# Altium footprint library Analog Devices Footprints.PcbLib: 248 footprints (part 6 of 16)
Each footprint in its own frame and in the unit in brackets; x right, y up, seen from the top. Pads: shape width x height; smd on the part's side, far side on the other; paste and mask are expansions set on the pad; w line width, h text height; cw(c..) or ccw(c..) is an arc to the next point about the centre after c.
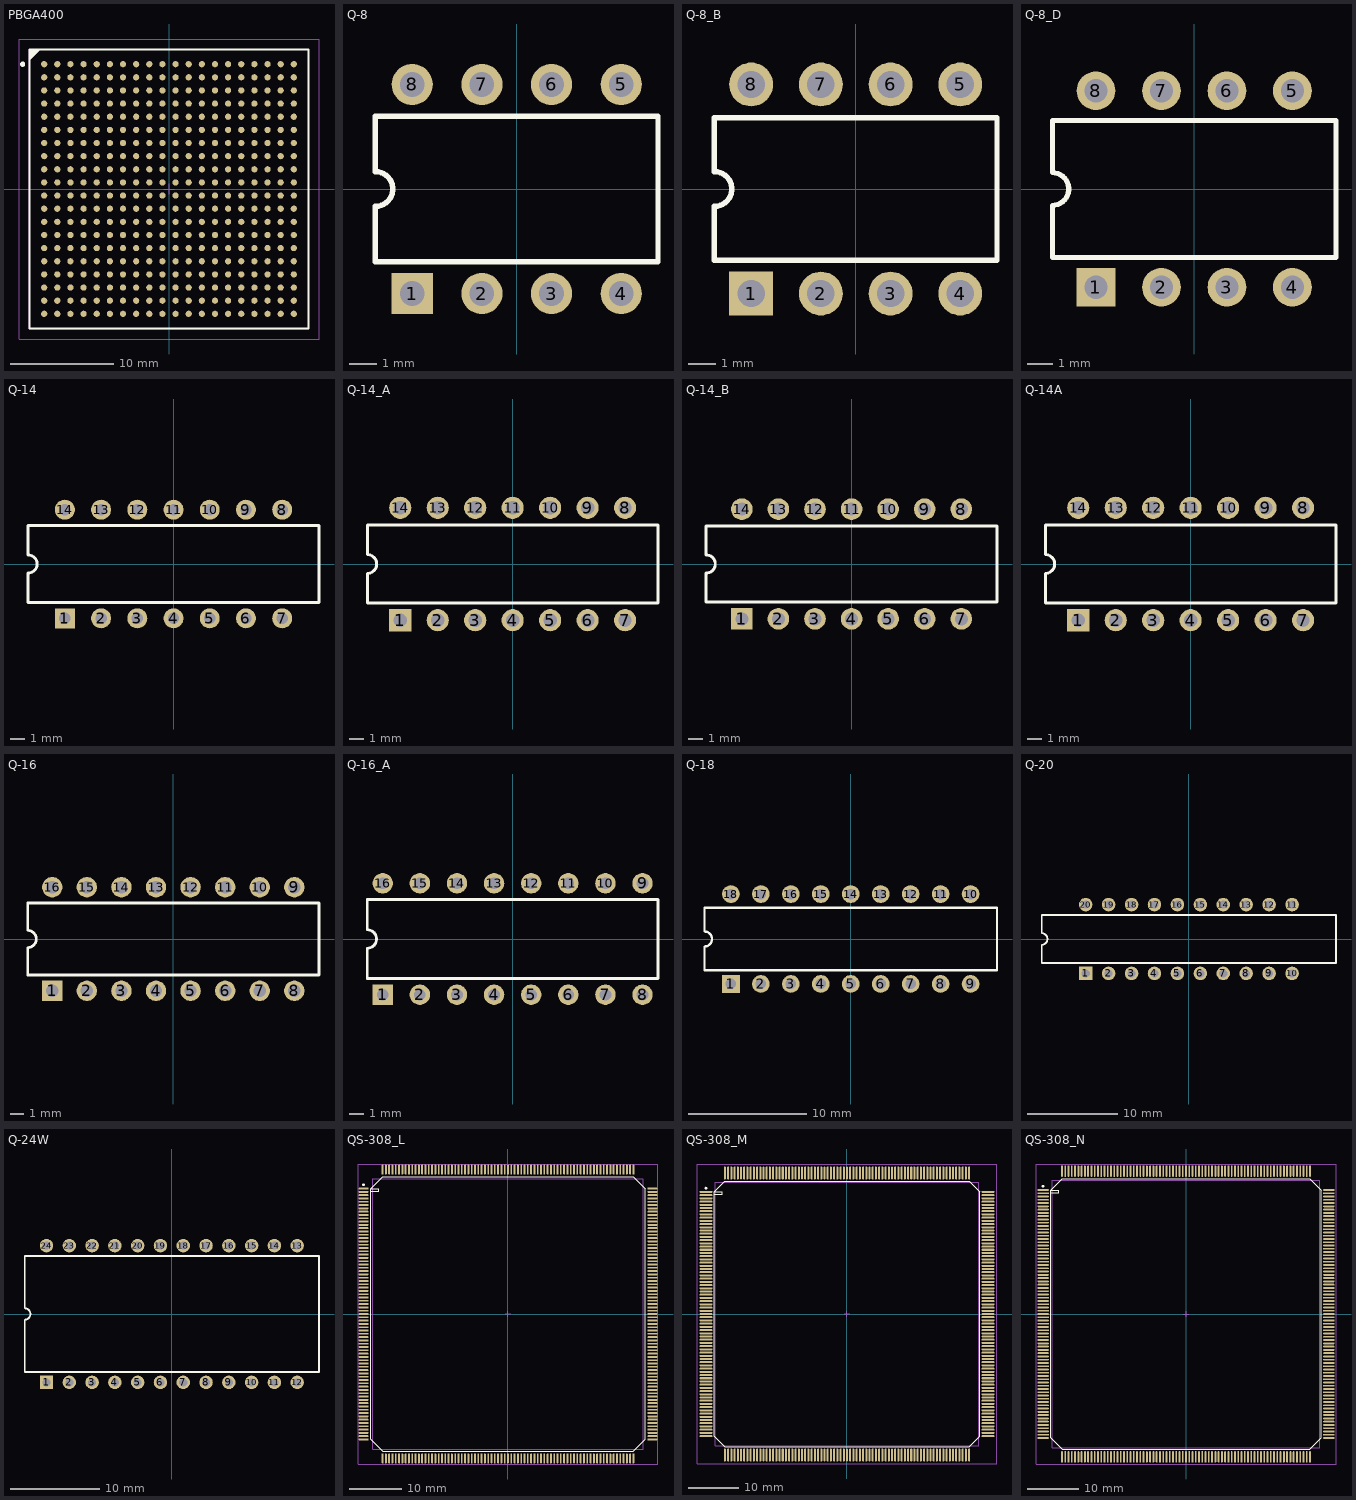
[diagram p5: the footprints below, top view; thin cyan lines are the x and y axes]

## PBGA400 [mm] "400-Ball Ball Grid Array 1.27 mm Pitch"
height 2.3
pads (400):
  round 0.6 smd: A1(-12.065,12.065) A2(-10.795,12.065) A3(-9.525,12.065) A4(-8.255,12.065) A5(-6.985,12.065) A6(-5.715,12.065) A7(-4.445,12.065) A8(-3.175,12.065) A9(-1.905,12.065) A10(-0.635,12.065) A11(0.635,12.065) A12(1.905,12.065) A13(3.175,12.065) A14(4.445,12.065) A15(5.715,12.065) A16(6.985,12.065) A17(8.255,12.065) A18(9.525,12.065) A19(10.795,12.065) A20(12.065,12.065) B1(-12.065,10.795) B2(-10.795,10.795) B3(-9.525,10.795) B4(-8.255,10.795) B5(-6.985,10.795) B6(-5.715,10.795) B7(-4.445,10.795) B8(-3.175,10.795) B9(-1.905,10.795) B10(-0.635,10.795) B11(0.635,10.795) B12(1.905,10.795) B13(3.175,10.795) B14(4.445,10.795) B15(5.715,10.795) B16(6.985,10.795) B17(8.255,10.795) B18(9.525,10.795) B19(10.795,10.795) B20(12.065,10.795) C1(-12.065,9.525) C2(-10.795,9.525) C3(-9.525,9.525) C4(-8.255,9.525) C5(-6.985,9.525) C6(-5.715,9.525) C7(-4.445,9.525) C8(-3.175,9.525) C9(-1.905,9.525) C10(-0.635,9.525) C11(0.635,9.525) C12(1.905,9.525) C13(3.175,9.525) C14(4.445,9.525) C15(5.715,9.525) C16(6.985,9.525) C17(8.255,9.525) C18(9.525,9.525) C19(10.795,9.525) C20(12.065,9.525) D1(-12.065,8.255) D2(-10.795,8.255) D3(-9.525,8.255) D4(-8.255,8.255) D5(-6.985,8.255) D6(-5.715,8.255) D7(-4.445,8.255) D8(-3.175,8.255) D9(-1.905,8.255) D10(-0.635,8.255) D11(0.635,8.255) D12(1.905,8.255) D13(3.175,8.255) D14(4.445,8.255) D15(5.715,8.255) D16(6.985,8.255) D17(8.255,8.255) D18(9.525,8.255) D19(10.795,8.255) D20(12.065,8.255) E1(-12.065,6.985) E2(-10.795,6.985) E3(-9.525,6.985) E4(-8.255,6.985) E5(-6.985,6.985) E6(-5.715,6.985) E7(-4.445,6.985) E8(-3.175,6.985) E9(-1.905,6.985) E10(-0.635,6.985) E11(0.635,6.985) E12(1.905,6.985) E13(3.175,6.985) E14(4.445,6.985) E15(5.715,6.985) E16(6.985,6.985) E17(8.255,6.985) E18(9.525,6.985) E19(10.795,6.985) E20(12.065,6.985) F1(-12.065,5.715) F2(-10.795,5.715) F3(-9.525,5.715) F4(-8.255,5.715) F5(-6.985,5.715) F6(-5.715,5.715) F7(-4.445,5.715) F8(-3.175,5.715) F9(-1.905,5.715) F10(-0.635,5.715) F11(0.635,5.715) F12(1.905,5.715) F13(3.175,5.715) F14(4.445,5.715) F15(5.715,5.715) F16(6.985,5.715) F17(8.255,5.715) F18(9.525,5.715) F19(10.795,5.715) F20(12.065,5.715) G1(-12.065,4.445) G2(-10.795,4.445) G3(-9.525,4.445) G4(-8.255,4.445) G5(-6.985,4.445) G6(-5.715,4.445) G7(-4.445,4.445) G8(-3.175,4.445) G9(-1.905,4.445) G10(-0.635,4.445) G11(0.635,4.445) G12(1.905,4.445) G13(3.175,4.445) G14(4.445,4.445) G15(5.715,4.445) G16(6.985,4.445) G17(8.255,4.445) G18(9.525,4.445) G19(10.795,4.445) G20(12.065,4.445) H1(-12.065,3.175) H2(-10.795,3.175) H3(-9.525,3.175) H4(-8.255,3.175) H5(-6.985,3.175) H6(-5.715,3.175) H7(-4.445,3.175) H8(-3.175,3.175) H9(-1.905,3.175) H10(-0.635,3.175) H11(0.635,3.175) H12(1.905,3.175) H13(3.175,3.175) H14(4.445,3.175) H15(5.715,3.175) H16(6.985,3.175) H17(8.255,3.175) H18(9.525,3.175) H19(10.795,3.175) H20(12.065,3.175) J1(-12.065,1.905) J2(-10.795,1.905) J3(-9.525,1.905) J4(-8.255,1.905) J5(-6.985,1.905) J6(-5.715,1.905) J7(-4.445,1.905) J8(-3.175,1.905) J9(-1.905,1.905) J10(-0.635,1.905) J11(0.635,1.905) J12(1.905,1.905) J13(3.175,1.905) J14(4.445,1.905) J15(5.715,1.905) J16(6.985,1.905) J17(8.255,1.905) J18(9.525,1.905) J19(10.795,1.905) J20(12.065,1.905) K1(-12.065,0.635) K2(-10.795,0.635) K3(-9.525,0.635) K4(-8.255,0.635) K5(-6.985,0.635) K6(-5.715,0.635) K7(-4.445,0.635) K8(-3.175,0.635) K9(-1.905,0.635) K10(-0.635,0.635) K11(0.635,0.635) K12(1.905,0.635) K13(3.175,0.635) K14(4.445,0.635) K15(5.715,0.635) K16(6.985,0.635) K17(8.255,0.635) K18(9.525,0.635) K19(10.795,0.635) K20(12.065,0.635) L1(-12.065,-0.635) L2(-10.795,-0.635) L3(-9.525,-0.635) L4(-8.255,-0.635) L5(-6.985,-0.635) L6(-5.715,-0.635) L7(-4.445,-0.635) L8(-3.175,-0.635) L9(-1.905,-0.635) L10(-0.635,-0.635) L11(0.635,-0.635) L12(1.905,-0.635) L13(3.175,-0.635) L14(4.445,-0.635) L15(5.715,-0.635) L16(6.985,-0.635) L17(8.255,-0.635) L18(9.525,-0.635) L19(10.795,-0.635) L20(12.065,-0.635) M1(-12.065,-1.905) M2(-10.795,-1.905) M3(-9.525,-1.905) M4(-8.255,-1.905) M5(-6.985,-1.905) M6(-5.715,-1.905) M7(-4.445,-1.905) M8(-3.175,-1.905) M9(-1.905,-1.905) M10(-0.635,-1.905) M11(0.635,-1.905) M12(1.905,-1.905) M13(3.175,-1.905) M14(4.445,-1.905) M15(5.715,-1.905) M16(6.985,-1.905) M17(8.255,-1.905) M18(9.525,-1.905) M19(10.795,-1.905) M20(12.065,-1.905) N1(-12.065,-3.175) N2(-10.795,-3.175) N3(-9.525,-3.175) N4(-8.255,-3.175) N5(-6.985,-3.175) N6(-5.715,-3.175) N7(-4.445,-3.175) N8(-3.175,-3.175) N9(-1.905,-3.175) N10(-0.635,-3.175) N11(0.635,-3.175) N12(1.905,-3.175) N13(3.175,-3.175) N14(4.445,-3.175) N15(5.715,-3.175) N16(6.985,-3.175) N17(8.255,-3.175) N18(9.525,-3.175) N19(10.795,-3.175) N20(12.065,-3.175) P1(-12.065,-4.445) P2(-10.795,-4.445) P3(-9.525,-4.445) P4(-8.255,-4.445) P5(-6.985,-4.445) P6(-5.715,-4.445) P7(-4.445,-4.445) P8(-3.175,-4.445) P9(-1.905,-4.445) P10(-0.635,-4.445) P11(0.635,-4.445) P12(1.905,-4.445) P13(3.175,-4.445) P14(4.445,-4.445) P15(5.715,-4.445) P16(6.985,-4.445) P17(8.255,-4.445) P18(9.525,-4.445) P19(10.795,-4.445) P20(12.065,-4.445) R1(-12.065,-5.715) R2(-10.795,-5.715) R3(-9.525,-5.715) R4(-8.255,-5.715) R5(-6.985,-5.715) R6(-5.715,-5.715) R7(-4.445,-5.715) R8(-3.175,-5.715) R9(-1.905,-5.715) R10(-0.635,-5.715) R11(0.635,-5.715) R12(1.905,-5.715) R13(3.175,-5.715) R14(4.445,-5.715) R15(5.715,-5.715) R16(6.985,-5.715) R17(8.255,-5.715) R18(9.525,-5.715) R19(10.795,-5.715) R20(12.065,-5.715) T1(-12.065,-6.985) T2(-10.795,-6.985) T3(-9.525,-6.985) T4(-8.255,-6.985) T5(-6.985,-6.985) T6(-5.715,-6.985) T7(-4.445,-6.985) T8(-3.175,-6.985) T9(-1.905,-6.985) T10(-0.635,-6.985) T11(0.635,-6.985) T12(1.905,-6.985) T13(3.175,-6.985) T14(4.445,-6.985) T15(5.715,-6.985) T16(6.985,-6.985) T17(8.255,-6.985) T18(9.525,-6.985) T19(10.795,-6.985) T20(12.065,-6.985) U1(-12.065,-8.255) U2(-10.795,-8.255) U3(-9.525,-8.255) U4(-8.255,-8.255) U5(-6.985,-8.255) U6(-5.715,-8.255) U7(-4.445,-8.255) U8(-3.175,-8.255) U9(-1.905,-8.255) U10(-0.635,-8.255) U11(0.635,-8.255) U12(1.905,-8.255) U13(3.175,-8.255) U14(4.445,-8.255) U15(5.715,-8.255) U16(6.985,-8.255) U17(8.255,-8.255) U18(9.525,-8.255) U19(10.795,-8.255) U20(12.065,-8.255) V1(-12.065,-9.525) V2(-10.795,-9.525) V3(-9.525,-9.525) V4(-8.255,-9.525) V5(-6.985,-9.525) V6(-5.715,-9.525) V7(-4.445,-9.525) V8(-3.175,-9.525) V9(-1.905,-9.525) V10(-0.635,-9.525) V11(0.635,-9.525) V12(1.905,-9.525) V13(3.175,-9.525) V14(4.445,-9.525) V15(5.715,-9.525) V16(6.985,-9.525) V17(8.255,-9.525) V18(9.525,-9.525) V19(10.795,-9.525) V20(12.065,-9.525) W1(-12.065,-10.795) W2(-10.795,-10.795) W3(-9.525,-10.795) W4(-8.255,-10.795) W5(-6.985,-10.795) W6(-5.715,-10.795) W7(-4.445,-10.795) W8(-3.175,-10.795) W9(-1.905,-10.795) W10(-0.635,-10.795) W11(0.635,-10.795) W12(1.905,-10.795) W13(3.175,-10.795) W14(4.445,-10.795) W15(5.715,-10.795) W16(6.985,-10.795) W17(8.255,-10.795) W18(9.525,-10.795) W19(10.795,-10.795) W20(12.065,-10.795) Y1(-12.065,-12.065) Y2(-10.795,-12.065) Y3(-9.525,-12.065) Y4(-8.255,-12.065) Y5(-6.985,-12.065) Y6(-5.715,-12.065) Y7(-4.445,-12.065) Y8(-3.175,-12.065) Y9(-1.905,-12.065) Y10(-0.635,-12.065) Y11(0.635,-12.065) Y12(1.905,-12.065) Y13(3.175,-12.065) Y14(4.445,-12.065) Y15(5.715,-12.065) Y16(6.985,-12.065) Y17(8.255,-12.065) Y18(9.525,-12.065) Y19(10.795,-12.065) Y20(12.065,-12.065)
Top Overlay:
  circle w0.25: c-14.15,12.065 r0.125
  region: -12.5,13.5 -13.5,12.5 -13.5,13.5
  lines w0.2: -13.5,12.5 -12.5,13.5 ; -13.5,-13.5 -13.5,13.5 13.5,13.5 13.5,-13.5 -13.5,-13.5
Mechanical 13:
  lines w0.1: -13.5,-13.5 -13.5,13.5 13.5,13.5 13.5,-13.5 -13.5,-13.5
Mechanical 15:
  lines w0.1: -0.5,0 0.5,0 ; 0,-0.5 0,0.5 ; -14.5,-14.5 -14.5,14.5 14.5,14.5 14.5,-14.5 -14.5,-14.5
3D body: height 2.3, standoff 0, extent -13.5,-13.5 13.5,13.5

## Q-8 [mm] "DIP; 8 Leads; Row Spacing 7.62 mm; Pitch 2.54 mm"
height 5.08
pads (8):
  rect 1.5x1.5 hole 0.9: 1(-3.81,-3.81)
  round 1.5 hole 0.9: 2(-1.27,-3.81) 3(1.27,-3.81) 4(3.81,-3.81) 5(3.81,3.81) 6(1.27,3.81) 7(-1.27,3.81) 8(-3.81,3.81)
Top Overlay:
  lines w0.2: -5.15,-2.65 -5.15,-0.635 ccw(c-5.15,0) -5.15,0.635 -5.15,2.65 5.15,2.65 5.15,-2.65 -5.15,-2.65

## Q-8_B [mm] "DIP; 8 Leads; Row Spacing 7.62 mm; Pitch 2.54 mm"
height 5.08
pads (8):
  rect 1.6x1.6 hole 1: 1(-3.81,-3.81)
  round 1.6 hole 1: 2(-1.27,-3.81) 3(1.27,-3.81) 4(3.81,-3.81) 5(3.81,3.81) 6(1.27,3.81) 7(-1.27,3.81) 8(-3.81,3.81)
Top Overlay:
  lines w0.2: -5.15,-2.6 5.15,-2.6 5.15,2.6 -5.15,2.6 -5.15,0.635 cw(c-5.15,0) -5.15,-0.635 -5.15,-2.6

## Q-8_D [mm] "DIP; 8 Leads; Row Spacing 7.62 mm; Pitch 2.54 mm"
height 5.08
pads (8):
  rect 1.5x1.5 hole 0.9: 1(-3.81,-3.81)
  round 1.5 hole 0.9: 2(-1.27,-3.81) 3(1.27,-3.81) 4(3.81,-3.81) 5(3.81,3.81) 6(1.27,3.81) 7(-1.27,3.81) 8(-3.81,3.81)
Top Overlay:
  lines w0.2: -5.5,-2.65 -5.5,-0.635 ccw(c-5.5,0) -5.5,0.635 -5.5,2.65 5.5,2.65 5.5,-2.65 -5.5,-2.65

## Q-14 [mm] "DIP; 14 Leads; Row Spacing 7.62 mm; Pitch 2.54 mm"
height 5.08
pads (14):
  rect 1.4x1.4 hole 0.8: 1(-7.62,-3.81)
  round 1.4 hole 0.8: 2(-5.08,-3.81) 3(-2.54,-3.81) 4(0,-3.81) 5(2.54,-3.81) 6(5.08,-3.81) 7(7.62,-3.81) 8(7.62,3.81) 9(5.08,3.81) 10(2.54,3.81) 11(0,3.81) 12(-2.54,3.81) 13(-5.08,3.81) 14(-7.62,3.81)
Top Overlay:
  lines w0.2: -10.2,-2.7 10.2,-2.7 10.2,2.7 -10.2,2.7 -10.2,0.635 cw(c-10.2,0) -10.2,-0.635 -10.2,-2.7

## Q-14_A [mm] "DIP; 14 Leads; Row Spacing 7.62 mm; Pitch 2.54 mm"
height 5.33
pads (14):
  rect 1.5x1.5 hole 0.9: 1(-7.62,-3.81)
  round 1.5 hole 0.9: 2(-5.08,-3.81) 3(-2.54,-3.81) 4(0,-3.81) 5(2.54,-3.81) 6(5.08,-3.81) 7(7.62,-3.81) 8(7.62,3.81) 9(5.08,3.81) 10(2.54,3.81) 11(0,3.81) 12(-2.54,3.81) 13(-5.08,3.81) 14(-7.62,3.81)
Top Overlay:
  lines w0.2: -9.85,-2.65 -9.85,-0.635 ccw(c-9.85,0) -9.85,0.635 -9.85,2.65 9.85,2.65 9.85,-2.65 -9.85,-2.65

## Q-14_B [mm] "DIP; 14 Leads; Row Spacing 7.62 mm; Pitch 2.54 mm"
height 5.08
pads (14):
  rect 1.5x1.5 hole 0.9: 1(-7.62,-3.81)
  round 1.5 hole 0.9: 2(-5.08,-3.81) 3(-2.54,-3.81) 4(0,-3.81) 5(2.54,-3.81) 6(5.08,-3.81) 7(7.62,-3.81) 8(7.62,3.81) 9(5.08,3.81) 10(2.54,3.81) 11(0,3.81) 12(-2.54,3.81) 13(-5.08,3.81) 14(-7.62,3.81)
Top Overlay:
  lines w0.2: -10.1,-2.65 -10.1,-0.635 ccw(c-10.1,0) -10.1,0.635 -10.1,2.65 10.1,2.65 10.1,-2.65 -10.1,-2.65

## Q-14A [mm] "DIP; 14 Leads; Row Spacing 7.62 mm; Pitch 2.54 mm"
height 5.33
pads (14):
  rect 1.5x1.5 hole 0.9: 1(-7.62,-3.81)
  round 1.5 hole 0.9: 2(-5.08,-3.81) 3(-2.54,-3.81) 4(0,-3.81) 5(2.54,-3.81) 6(5.08,-3.81) 7(7.62,-3.81) 8(7.62,3.81) 9(5.08,3.81) 10(2.54,3.81) 11(0,3.81) 12(-2.54,3.81) 13(-5.08,3.81) 14(-7.62,3.81)
Top Overlay:
  lines w0.2: -9.85,-2.65 -9.85,-0.635 ccw(c-9.85,0) -9.85,0.635 -9.85,2.65 9.85,2.65 9.85,-2.65 -9.85,-2.65

## Q-16 [mm] "DIP; 16 Leads; Row Spacing 7.62 mm; Pitch 2.54 mm"
height 5.08
pads (16):
  rect 1.5x1.5 hole 0.9: 1(-8.89,-3.81)
  round 1.5 hole 0.9: 2(-6.35,-3.81) 3(-3.81,-3.81) 4(-1.27,-3.81) 5(1.27,-3.81) 6(3.81,-3.81) 7(6.35,-3.81) 8(8.89,-3.81) 9(8.89,3.81) 10(6.35,3.81) 11(3.81,3.81) 12(1.27,3.81) 13(-1.27,3.81) 14(-3.81,3.81) 15(-6.35,3.81) 16(-8.89,3.81)
Top Overlay:
  lines w0.2: -10.7,-2.65 -10.7,-0.635 ccw(c-10.7,0) -10.7,0.635 -10.7,2.65 10.7,2.65 10.7,-2.65 -10.7,-2.65

## Q-16_A [mm] "DIP; 16 Leads; Row Spacing 7.62 mm; Pitch 2.54 mm"
height 5.08
pads (16):
  rect 1.4x1.4 hole 0.8: 1(-8.89,-3.81)
  round 1.4 hole 0.8: 2(-6.35,-3.81) 3(-3.81,-3.81) 4(-1.27,-3.81) 5(1.27,-3.81) 6(3.81,-3.81) 7(6.35,-3.81) 8(8.89,-3.81) 9(8.89,3.81) 10(6.35,3.81) 11(3.81,3.81) 12(1.27,3.81) 13(-1.27,3.81) 14(-3.81,3.81) 15(-6.35,3.81) 16(-8.89,3.81)
Top Overlay:
  lines w0.2: -9.95,-2.7 -9.95,-0.635 ccw(c-9.95,0) -9.95,0.635 -9.95,2.7 9.95,2.7 9.95,-2.7 -9.95,-2.7

## Q-18 [mm] "DIP, Ceramic; 18 Leads; Row Spacing 7.62 mm; Pitch 2.54 mm"
height 5.08
pads (18):
  rect 1.5x1.5 hole 0.9: 1(-10.16,-3.81)
  round 1.5 hole 0.9: 2(-7.62,-3.81) 3(-5.08,-3.81) 4(-2.54,-3.81) 5(0,-3.81) 6(2.54,-3.81) 7(5.08,-3.81) 8(7.62,-3.81) 9(10.16,-3.81) 10(10.16,3.81) 11(7.62,3.81) 12(5.08,3.81) 13(2.54,3.81) 14(0,3.81) 15(-2.54,3.81) 16(-5.08,3.81) 17(-7.62,3.81) 18(-10.16,3.81)
Top Overlay:
  lines w0.2: -12.4,-2.65 12.4,-2.65 12.4,2.65 -12.4,2.65 -12.4,0.635 cw(c-12.4,0) -12.4,-0.635 -12.4,-2.65

## Q-20 [mm] "DIP; 20 Leads; Row Spacing 7.62 mm; Pitch 2.54 mm"
height 5.08
pads (20):
  rect 1.5x1.5 hole 0.9: 1(-11.43,-3.81)
  round 1.5 hole 0.9: 2(-8.89,-3.81) 3(-6.35,-3.81) 4(-3.81,-3.81) 5(-1.27,-3.81) 6(1.27,-3.81) 7(3.81,-3.81) 8(6.35,-3.81) 9(8.89,-3.81) 10(11.43,-3.81) 11(11.43,3.81) 12(8.89,3.81) 13(6.35,3.81) 14(3.81,3.81) 15(1.27,3.81) 16(-1.27,3.81) 17(-3.81,3.81) 18(-6.35,3.81) 19(-8.89,3.81) 20(-11.43,3.81)
Top Overlay:
  lines w0.2: -16.3,-2.65 -16.3,-0.635 ccw(c-16.3,0) -16.3,0.635 -16.3,2.65 16.3,2.65 16.3,-2.65 -16.3,-2.65

## Q-24W [mm] "DIP; 24 Leads; Row Spacing 15.24 mm; Pitch 2.54 mm"
height 5.08
pads (24):
  rect 1.5x1.5 hole 0.9: 1(-13.97,-7.62)
  round 1.5 hole 0.9: 2(-11.43,-7.62) 3(-8.89,-7.62) 4(-6.35,-7.62) 5(-3.81,-7.62) 6(-1.27,-7.62) 7(1.27,-7.62) 8(3.81,-7.62) 9(6.35,-7.62) 10(8.89,-7.62) 11(11.43,-7.62) 12(13.97,-7.62) 13(13.97,7.62) 14(11.43,7.62) 15(8.89,7.62) 16(6.35,7.62) 17(3.81,7.62) 18(1.27,7.62) 19(-1.27,7.62) 20(-3.81,7.62) 21(-6.35,7.62) 22(-8.89,7.62) 23(-11.43,7.62) 24(-13.97,7.62)
Top Overlay:
  lines w0.2: -16.4,-6.45 -16.4,-0.635 ccw(c-16.4,0) -16.4,0.635 -16.4,6.45 16.4,6.45 16.4,-6.45 -16.4,-6.45

## QS-308_L [mm] "308-Pin Ceramic Quad Flat Pack 0.635 mm Pitch, IPC High Density"
height 2.6
pads (308):
  oval 1.95x0.35 smd: 1(-27.775,24.13) 2(-27.775,23.495) 3(-27.775,22.86) 4(-27.775,22.225) 5(-27.775,21.59) 6(-27.775,20.955) 7(-27.775,20.32) 8(-27.775,19.685) 9(-27.775,19.05) 10(-27.775,18.415) 11(-27.775,17.78) 12(-27.775,17.145) 13(-27.775,16.51) 14(-27.775,15.875) 15(-27.775,15.24) 16(-27.775,14.605) 17(-27.775,13.97) 18(-27.775,13.335) 19(-27.775,12.7) 20(-27.775,12.065) 21(-27.775,11.43) 22(-27.775,10.795) 23(-27.775,10.16) 24(-27.775,9.525) 25(-27.775,8.89) 26(-27.775,8.255) 27(-27.775,7.62) 28(-27.775,6.985) 29(-27.775,6.35) 30(-27.775,5.715) 31(-27.775,5.08) 32(-27.775,4.445) 33(-27.775,3.81) 34(-27.775,3.175) 35(-27.775,2.54) 36(-27.775,1.905) 37(-27.775,1.27) 38(-27.775,0.635) 39(-27.775,0) 40(-27.775,-0.635) 41(-27.775,-1.27) 42(-27.775,-1.905) 43(-27.775,-2.54) 44(-27.775,-3.175) 45(-27.775,-3.81) 46(-27.775,-4.445) 47(-27.775,-5.08) 48(-27.775,-5.715) 49(-27.775,-6.35) 50(-27.775,-6.985) 51(-27.775,-7.62) 52(-27.775,-8.255) 53(-27.775,-8.89) 54(-27.775,-9.525) 55(-27.775,-10.16) 56(-27.775,-10.795) 57(-27.775,-11.43) 58(-27.775,-12.065) 59(-27.775,-12.7) 60(-27.775,-13.335) 61(-27.775,-13.97) 62(-27.775,-14.605) 63(-27.775,-15.24) 64(-27.775,-15.875) 65(-27.775,-16.51) 66(-27.775,-17.145) 67(-27.775,-17.78) 68(-27.775,-18.415) 69(-27.775,-19.05) 70(-27.775,-19.685) 71(-27.775,-20.32) 72(-27.775,-20.955) 73(-27.775,-21.59) 74(-27.775,-22.225) 75(-27.775,-22.86) 76(-27.775,-23.495) 77(-27.775,-24.13) 155(27.775,-24.13) 156(27.775,-23.495) 157(27.775,-22.86) 158(27.775,-22.225) 159(27.775,-21.59) 160(27.775,-20.955) 161(27.775,-20.32) 162(27.775,-19.685) 163(27.775,-19.05) 164(27.775,-18.415) 165(27.775,-17.78) 166(27.775,-17.145) 167(27.775,-16.51) 168(27.775,-15.875) 169(27.775,-15.24) 170(27.775,-14.605) 171(27.775,-13.97) 172(27.775,-13.335) 173(27.775,-12.7) 174(27.775,-12.065) 175(27.775,-11.43) 176(27.775,-10.795) 177(27.775,-10.16) 178(27.775,-9.525) 179(27.775,-8.89) 180(27.775,-8.255) 181(27.775,-7.62) 182(27.775,-6.985) 183(27.775,-6.35) 184(27.775,-5.715) 185(27.775,-5.08) 186(27.775,-4.445) 187(27.775,-3.81) 188(27.775,-3.175) 189(27.775,-2.54) 190(27.775,-1.905) 191(27.775,-1.27) 192(27.775,-0.635) 193(27.775,0) 194(27.775,0.635) 195(27.775,1.27) 196(27.775,1.905) 197(27.775,2.54) 198(27.775,3.175) 199(27.775,3.81) 200(27.775,4.445) 201(27.775,5.08) 202(27.775,5.715) 203(27.775,6.35) 204(27.775,6.985) 205(27.775,7.62) 206(27.775,8.255) 207(27.775,8.89) 208(27.775,9.525) 209(27.775,10.16) 210(27.775,10.795) 211(27.775,11.43) 212(27.775,12.065) 213(27.775,12.7) 214(27.775,13.335) 215(27.775,13.97) 216(27.775,14.605) 217(27.775,15.24) 218(27.775,15.875) 219(27.775,16.51) 220(27.775,17.145) 221(27.775,17.78) 222(27.775,18.415) 223(27.775,19.05) 224(27.775,19.685) 225(27.775,20.32) 226(27.775,20.955) 227(27.775,21.59) 228(27.775,22.225) 229(27.775,22.86) 230(27.775,23.495) 231(27.775,24.13)
  oval 0.35x1.95 smd: 78(-24.13,-27.775) 79(-23.495,-27.775) 80(-22.86,-27.775) 81(-22.225,-27.775) 82(-21.59,-27.775) 83(-20.955,-27.775) 84(-20.32,-27.775) 85(-19.685,-27.775) 86(-19.05,-27.775) 87(-18.415,-27.775) 88(-17.78,-27.775) 89(-17.145,-27.775) 90(-16.51,-27.775) 91(-15.875,-27.775) 92(-15.24,-27.775) 93(-14.605,-27.775) 94(-13.97,-27.775) 95(-13.335,-27.775) 96(-12.7,-27.775) 97(-12.065,-27.775) 98(-11.43,-27.775) 99(-10.795,-27.775) 100(-10.16,-27.775) 101(-9.525,-27.775) 102(-8.89,-27.775) 103(-8.255,-27.775) 104(-7.62,-27.775) 105(-6.985,-27.775) 106(-6.35,-27.775) 107(-5.715,-27.775) 108(-5.08,-27.775) 109(-4.445,-27.775) 110(-3.81,-27.775) 111(-3.175,-27.775) 112(-2.54,-27.775) 113(-1.905,-27.775) 114(-1.27,-27.775) 115(-0.635,-27.775) 116(0,-27.775) 117(0.635,-27.775) 118(1.27,-27.775) 119(1.905,-27.775) 120(2.54,-27.775) 121(3.175,-27.775) 122(3.81,-27.775) 123(4.445,-27.775) 124(5.08,-27.775) 125(5.715,-27.775) 126(6.35,-27.775) 127(6.985,-27.775) 128(7.62,-27.775) 129(8.255,-27.775) 130(8.89,-27.775) 131(9.525,-27.775) 132(10.16,-27.775) 133(10.795,-27.775) 134(11.43,-27.775) 135(12.065,-27.775) 136(12.7,-27.775) 137(13.335,-27.775) 138(13.97,-27.775) 139(14.605,-27.775) 140(15.24,-27.775) 141(15.875,-27.775) 142(16.51,-27.775) 143(17.145,-27.775) 144(17.78,-27.775) 145(18.415,-27.775) 146(19.05,-27.775) 147(19.685,-27.775) 148(20.32,-27.775) 149(20.955,-27.775) 150(21.59,-27.775) 151(22.225,-27.775) 152(22.86,-27.775) 153(23.495,-27.775) 154(24.13,-27.775) 232(24.13,27.775) 233(23.495,27.775) 234(22.86,27.775) 235(22.225,27.775) 236(21.59,27.775) 237(20.955,27.775) 238(20.32,27.775) 239(19.685,27.775) 240(19.05,27.775) 241(18.415,27.775) 242(17.78,27.775) 243(17.145,27.775) 244(16.51,27.775) 245(15.875,27.775) 246(15.24,27.775) 247(14.605,27.775) 248(13.97,27.775) 249(13.335,27.775) 250(12.7,27.775) 251(12.065,27.775) 252(11.43,27.775) 253(10.795,27.775) 254(10.16,27.775) 255(9.525,27.775) 256(8.89,27.775) 257(8.255,27.775) 258(7.62,27.775) 259(6.985,27.775) 260(6.35,27.775) 261(5.715,27.775) 262(5.08,27.775) 263(4.445,27.775) 264(3.81,27.775) 265(3.175,27.775) 266(2.54,27.775) 267(1.905,27.775) 268(1.27,27.775) 269(0.635,27.775) 270(0,27.775) 271(-0.635,27.775) 272(-1.27,27.775) 273(-1.905,27.775) 274(-2.54,27.775) 275(-3.175,27.775) 276(-3.81,27.775) 277(-4.445,27.775) 278(-5.08,27.775) 279(-5.715,27.775) 280(-6.35,27.775) 281(-6.985,27.775) 282(-7.62,27.775) 283(-8.255,27.775) 284(-8.89,27.775) 285(-9.525,27.775) 286(-10.16,27.775) 287(-10.795,27.775) 288(-11.43,27.775) 289(-12.065,27.775) 290(-12.7,27.775) 291(-13.335,27.775) 292(-13.97,27.775) 293(-14.605,27.775) 294(-15.24,27.775) 295(-15.875,27.775) 296(-16.51,27.775) 297(-17.145,27.775) 298(-17.78,27.775) 299(-18.415,27.775) 300(-19.05,27.775) 301(-19.685,27.775) 302(-20.32,27.775) 303(-20.955,27.775) 304(-21.59,27.775) 305(-22.225,27.775) 306(-22.86,27.775) 307(-23.495,27.775) 308(-24.13,27.775)
Top Overlay:
  circle w0.25: c-27.775,24.855 r0.125
  lines w0.2: -26.4,23.63 -24.9,23.63 -24.9,24.13 -26.4,24.13 ; -26.4,24.13 -24.13,26.4 24.13,26.4 26.4,24.13 26.4,-24.13 24.13,-26.4 -24.13,-26.4 -26.4,-24.13 -26.4,24.13
Mechanical 13:
  lines w0.1: -26.035,-26.035 26.035,-26.035 26.035,26.035 -26.035,26.035 -26.035,-26.035
Mechanical 15:
  lines w0.1: -0.5,0 0.5,0 ; 0,-0.5 0,0.5 ; -28.85,-28.85 28.85,-28.85 28.85,28.85 -28.85,28.85 -28.85,-28.85
3D body: height 2.6, standoff 0, extent -26.035,-26.035 26.035,26.035

## QS-308_M [mm] "308-Pin Ceramic Quad Flat Pack 0.635 mm Pitch, IPC Low Density"
height 2.6
pads (308):
  oval 2.55x0.4 smd: 1(-27.875,24.13) 2(-27.875,23.495) 3(-27.875,22.86) 4(-27.875,22.225) 5(-27.875,21.59) 6(-27.875,20.955) 7(-27.875,20.32) 8(-27.875,19.685) 9(-27.875,19.05) 10(-27.875,18.415) 11(-27.875,17.78) 12(-27.875,17.145) 13(-27.875,16.51) 14(-27.875,15.875) 15(-27.875,15.24) 16(-27.875,14.605) 17(-27.875,13.97) 18(-27.875,13.335) 19(-27.875,12.7) 20(-27.875,12.065) 21(-27.875,11.43) 22(-27.875,10.795) 23(-27.875,10.16) 24(-27.875,9.525) 25(-27.875,8.89) 26(-27.875,8.255) 27(-27.875,7.62) 28(-27.875,6.985) 29(-27.875,6.35) 30(-27.875,5.715) 31(-27.875,5.08) 32(-27.875,4.445) 33(-27.875,3.81) 34(-27.875,3.175) 35(-27.875,2.54) 36(-27.875,1.905) 37(-27.875,1.27) 38(-27.875,0.635) 39(-27.875,0) 40(-27.875,-0.635) 41(-27.875,-1.27) 42(-27.875,-1.905) 43(-27.875,-2.54) 44(-27.875,-3.175) 45(-27.875,-3.81) 46(-27.875,-4.445) 47(-27.875,-5.08) 48(-27.875,-5.715) 49(-27.875,-6.35) 50(-27.875,-6.985) 51(-27.875,-7.62) 52(-27.875,-8.255) 53(-27.875,-8.89) 54(-27.875,-9.525) 55(-27.875,-10.16) 56(-27.875,-10.795) 57(-27.875,-11.43) 58(-27.875,-12.065) 59(-27.875,-12.7) 60(-27.875,-13.335) 61(-27.875,-13.97) 62(-27.875,-14.605) 63(-27.875,-15.24) 64(-27.875,-15.875) 65(-27.875,-16.51) 66(-27.875,-17.145) 67(-27.875,-17.78) 68(-27.875,-18.415) 69(-27.875,-19.05) 70(-27.875,-19.685) 71(-27.875,-20.32) 72(-27.875,-20.955) 73(-27.875,-21.59) 74(-27.875,-22.225) 75(-27.875,-22.86) 76(-27.875,-23.495) 77(-27.875,-24.13) 155(27.875,-24.13) 156(27.875,-23.495) 157(27.875,-22.86) 158(27.875,-22.225) 159(27.875,-21.59) 160(27.875,-20.955) 161(27.875,-20.32) 162(27.875,-19.685) 163(27.875,-19.05) 164(27.875,-18.415) 165(27.875,-17.78) 166(27.875,-17.145) 167(27.875,-16.51) 168(27.875,-15.875) 169(27.875,-15.24) 170(27.875,-14.605) 171(27.875,-13.97) 172(27.875,-13.335) 173(27.875,-12.7) 174(27.875,-12.065) 175(27.875,-11.43) 176(27.875,-10.795) 177(27.875,-10.16) 178(27.875,-9.525) 179(27.875,-8.89) 180(27.875,-8.255) 181(27.875,-7.62) 182(27.875,-6.985) 183(27.875,-6.35) 184(27.875,-5.715) 185(27.875,-5.08) 186(27.875,-4.445) 187(27.875,-3.81) 188(27.875,-3.175) 189(27.875,-2.54) 190(27.875,-1.905) 191(27.875,-1.27) 192(27.875,-0.635) 193(27.875,0) 194(27.875,0.635) 195(27.875,1.27) 196(27.875,1.905) 197(27.875,2.54) 198(27.875,3.175) 199(27.875,3.81) 200(27.875,4.445) 201(27.875,5.08) 202(27.875,5.715) 203(27.875,6.35) 204(27.875,6.985) 205(27.875,7.62) 206(27.875,8.255) 207(27.875,8.89) 208(27.875,9.525) 209(27.875,10.16) 210(27.875,10.795) 211(27.875,11.43) 212(27.875,12.065) 213(27.875,12.7) 214(27.875,13.335) 215(27.875,13.97) 216(27.875,14.605) 217(27.875,15.24) 218(27.875,15.875) 219(27.875,16.51) 220(27.875,17.145) 221(27.875,17.78) 222(27.875,18.415) 223(27.875,19.05) 224(27.875,19.685) 225(27.875,20.32) 226(27.875,20.955) 227(27.875,21.59) 228(27.875,22.225) 229(27.875,22.86) 230(27.875,23.495) 231(27.875,24.13)
  oval 0.4x2.55 smd: 78(-24.13,-27.875) 79(-23.495,-27.875) 80(-22.86,-27.875) 81(-22.225,-27.875) 82(-21.59,-27.875) 83(-20.955,-27.875) 84(-20.32,-27.875) 85(-19.685,-27.875) 86(-19.05,-27.875) 87(-18.415,-27.875) 88(-17.78,-27.875) 89(-17.145,-27.875) 90(-16.51,-27.875) 91(-15.875,-27.875) 92(-15.24,-27.875) 93(-14.605,-27.875) 94(-13.97,-27.875) 95(-13.335,-27.875) 96(-12.7,-27.875) 97(-12.065,-27.875) 98(-11.43,-27.875) 99(-10.795,-27.875) 100(-10.16,-27.875) 101(-9.525,-27.875) 102(-8.89,-27.875) 103(-8.255,-27.875) 104(-7.62,-27.875) 105(-6.985,-27.875) 106(-6.35,-27.875) 107(-5.715,-27.875) 108(-5.08,-27.875) 109(-4.445,-27.875) 110(-3.81,-27.875) 111(-3.175,-27.875) 112(-2.54,-27.875) 113(-1.905,-27.875) 114(-1.27,-27.875) 115(-0.635,-27.875) 116(0,-27.875) 117(0.635,-27.875) 118(1.27,-27.875) 119(1.905,-27.875) 120(2.54,-27.875) 121(3.175,-27.875) 122(3.81,-27.875) 123(4.445,-27.875) 124(5.08,-27.875) 125(5.715,-27.875) 126(6.35,-27.875) 127(6.985,-27.875) 128(7.62,-27.875) 129(8.255,-27.875) 130(8.89,-27.875) 131(9.525,-27.875) 132(10.16,-27.875) 133(10.795,-27.875) 134(11.43,-27.875) 135(12.065,-27.875) 136(12.7,-27.875) 137(13.335,-27.875) 138(13.97,-27.875) 139(14.605,-27.875) 140(15.24,-27.875) 141(15.875,-27.875) 142(16.51,-27.875) 143(17.145,-27.875) 144(17.78,-27.875) 145(18.415,-27.875) 146(19.05,-27.875) 147(19.685,-27.875) 148(20.32,-27.875) 149(20.955,-27.875) 150(21.59,-27.875) 151(22.225,-27.875) 152(22.86,-27.875) 153(23.495,-27.875) 154(24.13,-27.875) 232(24.13,27.875) 233(23.495,27.875) 234(22.86,27.875) 235(22.225,27.875) 236(21.59,27.875) 237(20.955,27.875) 238(20.32,27.875) 239(19.685,27.875) 240(19.05,27.875) 241(18.415,27.875) 242(17.78,27.875) 243(17.145,27.875) 244(16.51,27.875) 245(15.875,27.875) 246(15.24,27.875) 247(14.605,27.875) 248(13.97,27.875) 249(13.335,27.875) 250(12.7,27.875) 251(12.065,27.875) 252(11.43,27.875) 253(10.795,27.875) 254(10.16,27.875) 255(9.525,27.875) 256(8.89,27.875) 257(8.255,27.875) 258(7.62,27.875) 259(6.985,27.875) 260(6.35,27.875) 261(5.715,27.875) 262(5.08,27.875) 263(4.445,27.875) 264(3.81,27.875) 265(3.175,27.875) 266(2.54,27.875) 267(1.905,27.875) 268(1.27,27.875) 269(0.635,27.875) 270(0,27.875) 271(-0.635,27.875) 272(-1.27,27.875) 273(-1.905,27.875) 274(-2.54,27.875) 275(-3.175,27.875) 276(-3.81,27.875) 277(-4.445,27.875) 278(-5.08,27.875) 279(-5.715,27.875) 280(-6.35,27.875) 281(-6.985,27.875) 282(-7.62,27.875) 283(-8.255,27.875) 284(-8.89,27.875) 285(-9.525,27.875) 286(-10.16,27.875) 287(-10.795,27.875) 288(-11.43,27.875) 289(-12.065,27.875) 290(-12.7,27.875) 291(-13.335,27.875) 292(-13.97,27.875) 293(-14.605,27.875) 294(-15.24,27.875) 295(-15.875,27.875) 296(-16.51,27.875) 297(-17.145,27.875) 298(-17.78,27.875) 299(-18.415,27.875) 300(-19.05,27.875) 301(-19.685,27.875) 302(-20.32,27.875) 303(-20.955,27.875) 304(-21.59,27.875) 305(-22.225,27.875) 306(-22.86,27.875) 307(-23.495,27.875) 308(-24.13,27.875)
Top Overlay:
  circle w0.25: c-27.875,24.88 r0.125
  lines w0.2: -26.2,23.63 -24.7,23.63 -24.7,24.13 -26.2,24.13 ; -26.2,24.13 -26.2,-24.13 -24.13,-26.2 24.13,-26.2 26.2,-24.13 26.2,24.13 24.13,26.2 -24.13,26.2 -26.2,24.13
Mechanical 13:
  lines w0.1: -26.035,-26.035 -26.035,26.035 26.035,26.035 26.035,-26.035 -26.035,-26.035
Mechanical 15:
  lines w0.1: -0.5,0 0.5,0 ; 0,-0.5 0,0.5 ; -29.65,-29.65 -29.65,29.65 29.65,29.65 29.65,-29.65 -29.65,-29.65
3D body: height 2.6, standoff 0, extent -26.035,-26.035 26.035,26.035

## QS-308_N [mm] "308-Pin Ceramic Quad Flat Pack 0.635 mm Pitch, IPC Medium Density"
height 2.6
pads (308):
  oval 2.25x0.35 smd: 1(-27.825,24.13) 2(-27.825,23.495) 3(-27.825,22.86) 4(-27.825,22.225) 5(-27.825,21.59) 6(-27.825,20.955) 7(-27.825,20.32) 8(-27.825,19.685) 9(-27.825,19.05) 10(-27.825,18.415) 11(-27.825,17.78) 12(-27.825,17.145) 13(-27.825,16.51) 14(-27.825,15.875) 15(-27.825,15.24) 16(-27.825,14.605) 17(-27.825,13.97) 18(-27.825,13.335) 19(-27.825,12.7) 20(-27.825,12.065) 21(-27.825,11.43) 22(-27.825,10.795) 23(-27.825,10.16) 24(-27.825,9.525) 25(-27.825,8.89) 26(-27.825,8.255) 27(-27.825,7.62) 28(-27.825,6.985) 29(-27.825,6.35) 30(-27.825,5.715) 31(-27.825,5.08) 32(-27.825,4.445) 33(-27.825,3.81) 34(-27.825,3.175) 35(-27.825,2.54) 36(-27.825,1.905) 37(-27.825,1.27) 38(-27.825,0.635) 39(-27.825,0) 40(-27.825,-0.635) 41(-27.825,-1.27) 42(-27.825,-1.905) 43(-27.825,-2.54) 44(-27.825,-3.175) 45(-27.825,-3.81) 46(-27.825,-4.445) 47(-27.825,-5.08) 48(-27.825,-5.715) 49(-27.825,-6.35) 50(-27.825,-6.985) 51(-27.825,-7.62) 52(-27.825,-8.255) 53(-27.825,-8.89) 54(-27.825,-9.525) 55(-27.825,-10.16) 56(-27.825,-10.795) 57(-27.825,-11.43) 58(-27.825,-12.065) 59(-27.825,-12.7) 60(-27.825,-13.335) 61(-27.825,-13.97) 62(-27.825,-14.605) 63(-27.825,-15.24) 64(-27.825,-15.875) 65(-27.825,-16.51) 66(-27.825,-17.145) 67(-27.825,-17.78) 68(-27.825,-18.415) 69(-27.825,-19.05) 70(-27.825,-19.685) 71(-27.825,-20.32) 72(-27.825,-20.955) 73(-27.825,-21.59) 74(-27.825,-22.225) 75(-27.825,-22.86) 76(-27.825,-23.495) 77(-27.825,-24.13) 155(27.825,-24.13) 156(27.825,-23.495) 157(27.825,-22.86) 158(27.825,-22.225) 159(27.825,-21.59) 160(27.825,-20.955) 161(27.825,-20.32) 162(27.825,-19.685) 163(27.825,-19.05) 164(27.825,-18.415) 165(27.825,-17.78) 166(27.825,-17.145) 167(27.825,-16.51) 168(27.825,-15.875) 169(27.825,-15.24) 170(27.825,-14.605) 171(27.825,-13.97) 172(27.825,-13.335) 173(27.825,-12.7) 174(27.825,-12.065) 175(27.825,-11.43) 176(27.825,-10.795) 177(27.825,-10.16) 178(27.825,-9.525) 179(27.825,-8.89) 180(27.825,-8.255) 181(27.825,-7.62) 182(27.825,-6.985) 183(27.825,-6.35) 184(27.825,-5.715) 185(27.825,-5.08) 186(27.825,-4.445) 187(27.825,-3.81) 188(27.825,-3.175) 189(27.825,-2.54) 190(27.825,-1.905) 191(27.825,-1.27) 192(27.825,-0.635) 193(27.825,0) 194(27.825,0.635) 195(27.825,1.27) 196(27.825,1.905) 197(27.825,2.54) 198(27.825,3.175) 199(27.825,3.81) 200(27.825,4.445) 201(27.825,5.08) 202(27.825,5.715) 203(27.825,6.35) 204(27.825,6.985) 205(27.825,7.62) 206(27.825,8.255) 207(27.825,8.89) 208(27.825,9.525) 209(27.825,10.16) 210(27.825,10.795) 211(27.825,11.43) 212(27.825,12.065) 213(27.825,12.7) 214(27.825,13.335) 215(27.825,13.97) 216(27.825,14.605) 217(27.825,15.24) 218(27.825,15.875) 219(27.825,16.51) 220(27.825,17.145) 221(27.825,17.78) 222(27.825,18.415) 223(27.825,19.05) 224(27.825,19.685) 225(27.825,20.32) 226(27.825,20.955) 227(27.825,21.59) 228(27.825,22.225) 229(27.825,22.86) 230(27.825,23.495) 231(27.825,24.13)
  oval 0.35x2.25 smd: 78(-24.13,-27.825) 79(-23.495,-27.825) 80(-22.86,-27.825) 81(-22.225,-27.825) 82(-21.59,-27.825) 83(-20.955,-27.825) 84(-20.32,-27.825) 85(-19.685,-27.825) 86(-19.05,-27.825) 87(-18.415,-27.825) 88(-17.78,-27.825) 89(-17.145,-27.825) 90(-16.51,-27.825) 91(-15.875,-27.825) 92(-15.24,-27.825) 93(-14.605,-27.825) 94(-13.97,-27.825) 95(-13.335,-27.825) 96(-12.7,-27.825) 97(-12.065,-27.825) 98(-11.43,-27.825) 99(-10.795,-27.825) 100(-10.16,-27.825) 101(-9.525,-27.825) 102(-8.89,-27.825) 103(-8.255,-27.825) 104(-7.62,-27.825) 105(-6.985,-27.825) 106(-6.35,-27.825) 107(-5.715,-27.825) 108(-5.08,-27.825) 109(-4.445,-27.825) 110(-3.81,-27.825) 111(-3.175,-27.825) 112(-2.54,-27.825) 113(-1.905,-27.825) 114(-1.27,-27.825) 115(-0.635,-27.825) 116(0,-27.825) 117(0.635,-27.825) 118(1.27,-27.825) 119(1.905,-27.825) 120(2.54,-27.825) 121(3.175,-27.825) 122(3.81,-27.825) 123(4.445,-27.825) 124(5.08,-27.825) 125(5.715,-27.825) 126(6.35,-27.825) 127(6.985,-27.825) 128(7.62,-27.825) 129(8.255,-27.825) 130(8.89,-27.825) 131(9.525,-27.825) 132(10.16,-27.825) 133(10.795,-27.825) 134(11.43,-27.825) 135(12.065,-27.825) 136(12.7,-27.825) 137(13.335,-27.825) 138(13.97,-27.825) 139(14.605,-27.825) 140(15.24,-27.825) 141(15.875,-27.825) 142(16.51,-27.825) 143(17.145,-27.825) 144(17.78,-27.825) 145(18.415,-27.825) 146(19.05,-27.825) 147(19.685,-27.825) 148(20.32,-27.825) 149(20.955,-27.825) 150(21.59,-27.825) 151(22.225,-27.825) 152(22.86,-27.825) 153(23.495,-27.825) 154(24.13,-27.825) 232(24.13,27.825) 233(23.495,27.825) 234(22.86,27.825) 235(22.225,27.825) 236(21.59,27.825) 237(20.955,27.825) 238(20.32,27.825) 239(19.685,27.825) 240(19.05,27.825) 241(18.415,27.825) 242(17.78,27.825) 243(17.145,27.825) 244(16.51,27.825) 245(15.875,27.825) 246(15.24,27.825) 247(14.605,27.825) 248(13.97,27.825) 249(13.335,27.825) 250(12.7,27.825) 251(12.065,27.825) 252(11.43,27.825) 253(10.795,27.825) 254(10.16,27.825) 255(9.525,27.825) 256(8.89,27.825) 257(8.255,27.825) 258(7.62,27.825) 259(6.985,27.825) 260(6.35,27.825) 261(5.715,27.825) 262(5.08,27.825) 263(4.445,27.825) 264(3.81,27.825) 265(3.175,27.825) 266(2.54,27.825) 267(1.905,27.825) 268(1.27,27.825) 269(0.635,27.825) 270(0,27.825) 271(-0.635,27.825) 272(-1.27,27.825) 273(-1.905,27.825) 274(-2.54,27.825) 275(-3.175,27.825) 276(-3.81,27.825) 277(-4.445,27.825) 278(-5.08,27.825) 279(-5.715,27.825) 280(-6.35,27.825) 281(-6.985,27.825) 282(-7.62,27.825) 283(-8.255,27.825) 284(-8.89,27.825) 285(-9.525,27.825) 286(-10.16,27.825) 287(-10.795,27.825) 288(-11.43,27.825) 289(-12.065,27.825) 290(-12.7,27.825) 291(-13.335,27.825) 292(-13.97,27.825) 293(-14.605,27.825) 294(-15.24,27.825) 295(-15.875,27.825) 296(-16.51,27.825) 297(-17.145,27.825) 298(-17.78,27.825) 299(-18.415,27.825) 300(-19.05,27.825) 301(-19.685,27.825) 302(-20.32,27.825) 303(-20.955,27.825) 304(-21.59,27.825) 305(-22.225,27.825) 306(-22.86,27.825) 307(-23.495,27.825) 308(-24.13,27.825)
Top Overlay:
  circle w0.25: c-27.825,24.855 r0.125
  lines w0.2: -26.3,23.63 -24.8,23.63 -24.8,24.13 -26.3,24.13 ; -26.3,24.13 -24.13,26.3 24.13,26.3 26.3,24.13 26.3,-24.13 24.13,-26.3 -24.13,-26.3 -26.3,-24.13 -26.3,24.13
Mechanical 13:
  lines w0.1: -26.035,-26.035 26.035,-26.035 26.035,26.035 -26.035,26.035 -26.035,-26.035
Mechanical 15:
  lines w0.1: -0.5,0 0.5,0 ; 0,-0.5 0,0.5 ; -29.2,-29.2 29.2,-29.2 29.2,29.2 -29.2,29.2 -29.2,-29.2
3D body: height 2.6, standoff 0, extent -26.035,-26.035 26.035,26.035